# Altium footprint library STM32MISC.PcbLib: 40 footprints (part 2 of 3)
Each footprint in its own frame and in the unit in brackets; x right, y up, seen from the top. Pads: shape width x height; smd on the part's side, far side on the other; paste and mask are expansions set on the pad; w line width, h text height; cw(c..) or ccw(c..) is an arc to the next point about the centre after c.
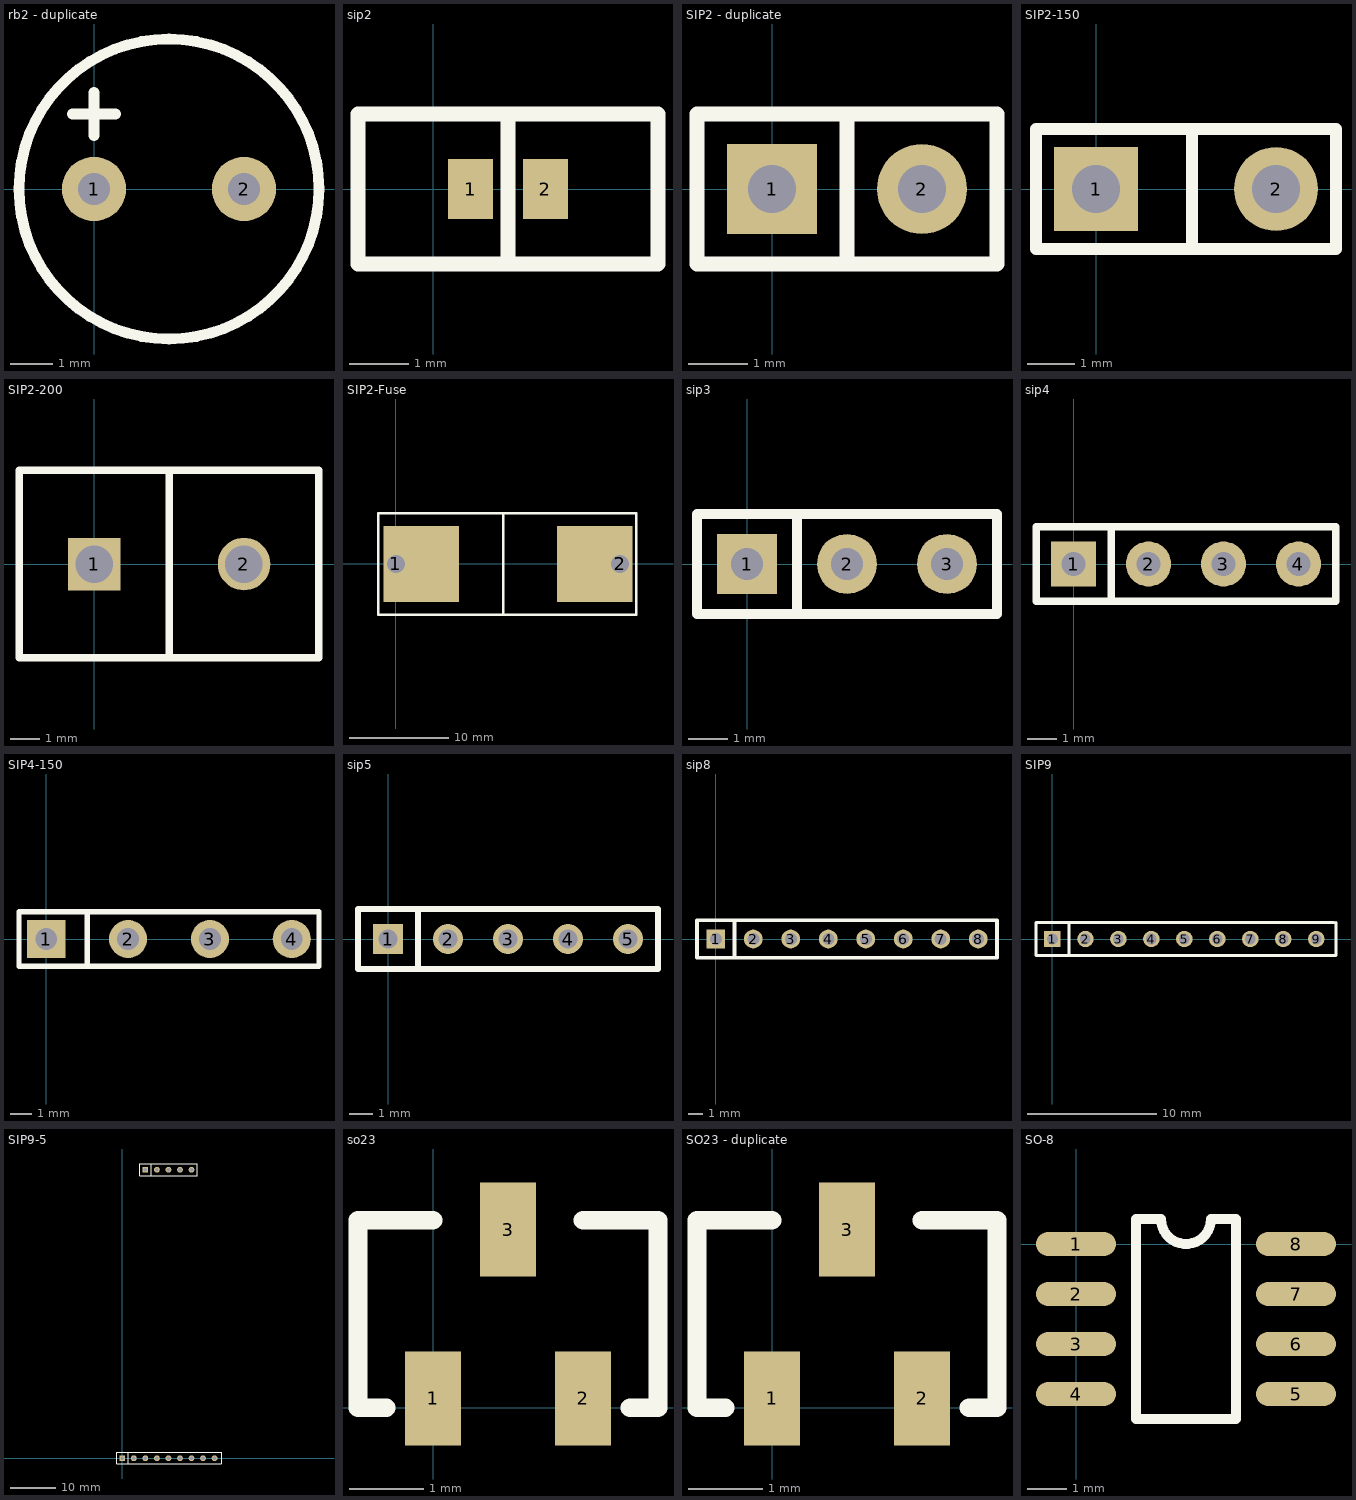
[diagram p1: the footprints below, top view; thin cyan lines are the x and y axes]

## rb2 - duplicate [mil]
pads (2):
  round 60 hole 30: 1(0,0) 2(140,0)
TopOverlay:
  circle w10: c70,0 r140
  lines w10: -20,70 20,70 ; 0,50 0,90

## sip2 [mil]
pads (2):
  rect 30x40 smd: 1(25,0) 2(75,0)
TopOverlay:
  lines w10: 50,-50 50,50 ; -50,-50 -50,50 150,50 150,-50 -50,-50

## SIP2 - duplicate [mil]
pads (2):
  rect 60x60 hole 32: 1(0,0)
  round 60 hole 32: 2(100,0)
TopOverlay:
  lines w10: 50,-50 50,50 ; -50,-50 -50,50 150,50 150,-50 -50,-50

## SIP2-150 [mil]
pads (2):
  rect 70x70 hole 40: 1(0,0)
  round 70 hole 40: 2(150,0)
TopOverlay:
  lines w10: 80,-50 80,50 ; -50,-50 200,-50 200,50 -50,50 -50,-50

## SIP2-200 [mil]
pads (2):
  rect 70x70 hole 50: 1(0,0)
  round 70 hole 50: 2(200,0)
TopOverlay:
  lines w10: 100,-125 100,125 ; -100,-125 -100,125 300,125 300,-125 -100,-125

## SIP2-Fuse [mil]
pads (2):
  rect 300x300 hole 70 copper offset 100,0: 1(0,0)
  rect 300x300 hole 70 copper offset -100,0: 2(886,0)
TopOverlay:
  lines w10: 425,-200 425,200 ; -70,-200 950,-200 950,200 -70,200 -70,-200

## sip3 [mil]
pads (3):
  rect 60x60 hole 32: 1(0,0)
  round 60 hole 32: 2(100,0) 3(200,0)
TopOverlay:
  lines w10: 50,-50 50,50 ; -50,-50 -50,50 250,50 250,-50 -50,-50

## sip4 [mil]
pads (4):
  rect 60x60 hole 32: 1(0,0)
  round 60 hole 32: 2(100,0) 3(200,0) 4(300,0)
TopOverlay:
  lines w10: 50,-50 50,50 ; -50,-50 -50,50 350,50 350,-50 -50,-50

## SIP4-150 [mil]
pads (4):
  rect 70x70 hole 40: 1(0,0)
  round 70 hole 40: 2(150,0) 3(300,0) 4(450,0)
TopOverlay:
  lines w10: 75,-50 75,50 ; -50,-50 500,-50 500,50 -50,50 -50,-50

## sip5 [mil]
pads (5):
  rect 50x50 hole 32: 1(0,0)
  round 50 hole 32: 2(100,0) 3(200,0) 4(300,0) 5(400,0)
TopOverlay:
  lines w10: 50,-50 50,50 ; -50,-50 450,-50 450,50 -50,50 -50,-50

## sip8 [mil]
pads (8):
  rect 50x50 hole 32: 1(0,0)
  round 50 hole 32: 2(100,0) 3(200,0) 4(300,0) 5(400,0) 6(500,0) 7(600,0) 8(700,0)
TopOverlay:
  lines w10: 50,-50 50,50 ; -50,-50 750,-50 750,50 -50,50 -50,-50

## SIP9 [mil]
pads (9):
  rect 50x50 hole 32: 1(0,0)
  round 50 hole 32: 2(100,0) 3(200,0) 4(300,0) 5(400,0) 6(500,0) 7(600,0) 8(700,0) 9(800,0)
TopOverlay:
  lines w10: 50,-50 50,50 ; 853,50 -50,50 -50,-50 857,-50 ; 860,-50 860,50

## SIP9-5 [mil]
pads (14):
  rect 50x50 hole 32: 1(0,0) 10(200,2500)
  round 50 hole 32: 2(100,0) 3(200,0) 4(300,0) 5(400,0) 6(500,0) 7(600,0) 8(700,0) 9(800,0) 11(300,2500) 12(400,2500) 13(500,2500) 14(600,2500)
TopOverlay:
  lines w10: 50,-50 50,50 ; 250,2450 250,2550 ; 853,50 -50,50 -50,-50 857,-50 ; 860,-50 860,50 ; 150,2450 150,2550 650,2550 650,2450 150,2450

## so23 [mil]
pads (3):
  rect 30x50 smd: 1(0,5) 2(80,5) 3(40,95)
TopOverlay:
  lines w10: -25,0 -40,0 -40,100 0,100 ; 80,100 120,100 120,0 105,0

## SO23 - duplicate [mil]
pads (3):
  rect 30x50 smd: 1(0,5) 2(80,5) 3(40,95)
TopOverlay:
  lines w10: -25,0 -40,0 -40,100 0,100 ; 80,100 120,100 120,0 105,0

## SO-8 [mil]
pads (8):
  oval 80x24 smd: 1(0,0) 2(0,-50) 3(0,-100) 4(0,-150) 5(220,-150) 6(220,-100) 7(220,-50) 8(220,0)
TopOverlay:
  lines w10: 60,-175 160,-175 160,25 135,25 cw(c110,25) 85,25 60,25 60,-175